# Altium footprint library syhaunguyen.PcbLib: 329 footprints (part 6 of 21)
Each footprint in its own frame and in the unit in brackets; x right, y up, seen from the top. Pads: shape width x height; smd on the part's side, far side on the other; paste and mask are expansions set on the pad; w line width, h text height; cw(c..) or ccw(c..) is an arc to the next point about the centre after c.
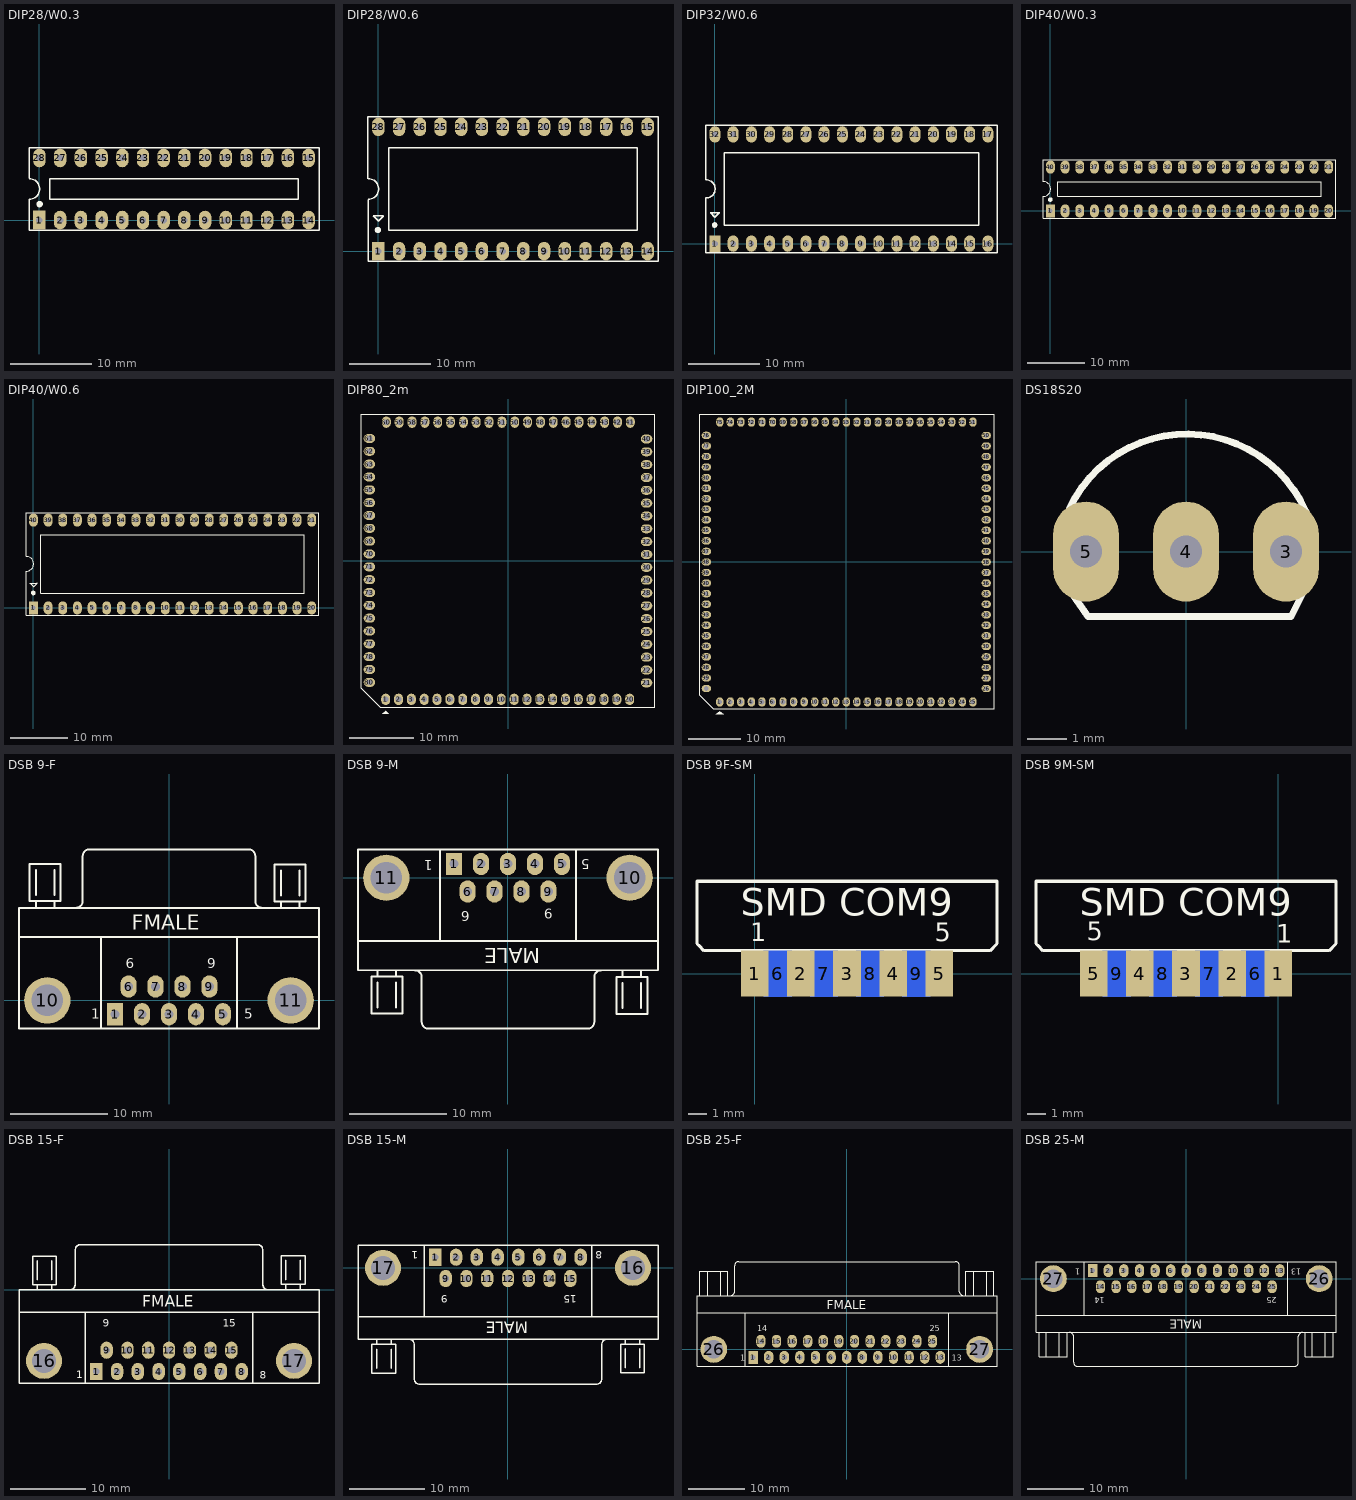
[diagram p5: the footprints below, top view; thin cyan lines are the x and y axes]

## DIP28/W0.3 [mil] "28 PIN, W 300mil, Pin to pin 100mil"
height 100
pads (28):
  rect 60x90 hole 31: 1(0,0)
  oval 60x90 hole 31: 2(100,0) 3(200,0) 4(300,0) 5(400,0) 6(500,0) 7(600,0) 8(700,0) 9(800,0) 10(900,0) 11(1000,0) 12(1100,0) 13(1200,0) 14(1300,0) 15(1300,300) 16(1200,300) 17(1100,300) 18(1000,300) 19(900,300) 20(800,300) 21(700,300) 22(600,300) 23(500,300) 24(400,300) 25(300,300) 26(200,300) 27(100,300) 28(0,300)
Top Overlay:
  circle w15: c1,77 r8
  lines w7: -50.38,100.05 ccw(c-48.69,150.02) -50,200 ; -50,100 -50,-50 1350,-50 1350,350 -50,350 -50,201 ; 50,100 1250,100 1250,200 50,200 50,100
3D body: height 200, standoff -98.03, extent -50,-10 1367.32,299.84

## DIP28/W0.6 [mil] "DIP28/W.600, Pin to pin 100mil"
height 100
pads (28):
  rect 60x90 hole 31: 1(0,0)
  oval 60x90 hole 31: 2(100,0) 3(200,0) 4(300,0) 5(400,0) 6(500,0) 7(600,0) 8(700,0) 9(800,0) 10(900,0) 11(1000,0) 12(1100,0) 13(1200,0) 14(1300,0) 15(1300,600) 16(1200,600) 17(1100,600) 18(1000,600) 19(900,600) 20(800,600) 21(700,600) 22(600,600) 23(500,600) 24(400,600) 25(300,600) 26(200,600) 27(100,600) 28(0,600)
Top Overlay:
  circle w15: c-2,102 r8
  lines w7: -51,350 -51,650 1350,650 1350,-50 -50,-50 -50,249 ; -50,250 ccw(c-48.31,299.97) -49.62,349.95 ; -25,170 -24,170 0,146 0,145 24,169 24,171 23,170 -25,170 ; 50,100 1250,100 1250,500 50,500 50,100
3D body: height 224.41, standoff -101.57, extent -84.25,0.16 1384.25,610

## DIP32/W0.6 [mil] "DIP32/W.600, Pin to pin 100mil"
height 100
pads (32):
  rect 60x90 hole 31: 1(0,0)
  oval 60x90 hole 31: 2(100,0) 3(200,0) 4(300,0) 5(400,0) 6(500,0) 7(600,0) 8(700,0) 9(800,0) 10(900,0) 11(1000,0) 12(1100,0) 13(1200,0) 14(1300,0) 15(1400,0) 16(1500,0) 17(1500,600) 18(1400,600) 19(1300,600) 20(1200,600) 21(1100,600) 22(1000,600) 23(900,600) 24(800,600) 25(700,600) 26(600,600) 27(500,600) 28(400,600) 29(300,600) 30(200,600) 31(100,600) 32(0,600)
Top Overlay:
  circle w15: c-2,102 r8
  lines w7: -50.38,251.05 ccw(c-48.69,301.02) -50,351 ; -50,251 -50,-50 1550,-50 1550,650 -50,650 -50,352 ; -25,170 23,170 24,171 24,169 0,145 0,146 -24,170 -25,170 ; 50,100 1450,100 1450,500 50,500 50,100
3D body: height 227.95, standoff -129.92, extent -77.56,0 1577.56,601.81

## DIP40/W0.3 [mil] "40 PIN, W 300mil, Pin to pin 100mil"
height 100
pads (40):
  rect 60x90 hole 31: 1(0,0)
  oval 60x90 hole 31: 2(100,0) 3(200,0) 4(300,0) 5(400,0) 6(500,0) 7(600,0) 8(700,0) 9(800,0) 10(900,0) 11(1000,0) 12(1100,0) 13(1200,0) 14(1300,0) 15(1400,0) 16(1500,0) 17(1600,0) 18(1700,0) 19(1800,0) 20(1900,0) 21(1900,300) 22(1800,300) 23(1700,300) 24(1600,300) 25(1500,300) 26(1400,300) 27(1300,300) 28(1200,300) 29(1100,300) 30(1000,300) 31(900,300) 32(800,300) 33(700,300) 34(600,300) 35(500,300) 36(400,300) 37(300,300) 38(200,300) 39(100,300) 40(0,300)
Top Overlay:
  circle w15: c-1,78 r8
  lines w7: -50.38,100.05 ccw(c-48.69,150.02) -50,200 ; -50,100 -50,-50 1950,-50 1950,350 -50,350 -50,201 ; 50,100 50,200 1850,200 1850,100 50,100
3D body: height 227.95, standoff -129.92, extent -70,-160.91 2000.87,440.91

## DIP40/W0.6 [mil] "40 PIN, W 600mil, Pin to pin 100mil"
height 100
pads (40):
  rect 60x90 hole 31: 1(0,0)
  oval 60x90 hole 31: 2(100,0) 3(200,0) 4(300,0) 5(400,0) 6(500,0) 7(600,0) 8(700,0) 9(800,0) 10(900,0) 11(1000,0) 12(1100,0) 13(1200,0) 14(1300,0) 15(1400,0) 16(1500,0) 17(1600,0) 18(1700,0) 19(1800,0) 20(1900,0) 21(1900,600) 22(1800,600) 23(1700,600) 24(1600,600) 25(1500,600) 26(1400,600) 27(1300,600) 28(1200,600) 29(1100,600) 30(1000,600) 31(900,600) 32(800,600) 33(700,600) 34(600,600) 35(500,600) 36(400,600) 37(300,600) 38(200,600) 39(100,600) 40(0,600)
Top Overlay:
  circle w15: c-1,102 r8
  lines w7: -50.38,251.05 ccw(c-48.69,301.02) -50,351 ; -50,251 -50,-50 1950,-50 1950,650 -50,650 -50,352 ; -24,170 24,170 25,171 25,169 1,145 1,146 -23,170 -24,170 ; 50,100 50,500 1850,500 1850,100 50,100
3D body: height 224.41, standoff -101.57, extent -82.48,-10 1982.48,599.84

## DIP80_2m [mil] "DIP80, P - P 200"
pads (80):
  oval 55x70 hole 35: 1(-750,-850) 2(-671.26,-850) 3(-592.52,-850) 4(-513.78,-850) 5(-435.04,-850) 6(-356.3,-850) 7(-277.56,-850) 8(-198.82,-850) 9(-120.08,-850) 10(-41.34,-850) 11(37.4,-850) 12(116.14,-850) 13(194.88,-850) 14(273.62,-850) 15(352.36,-850) 16(431.1,-850) 17(509.84,-850) 18(588.58,-850) 19(667.32,-850) 20(746.06,-850) 41(750,850) 42(671.26,850) 43(592.52,850) 44(513.78,850) 45(435.04,850) 46(356.3,850) 47(277.56,850) 48(198.82,850) 49(120.08,850) 50(41.34,850) 51(-37.4,850) 52(-116.14,850) 53(-194.88,850) 54(-273.62,850) 55(-352.36,850) 56(-431.1,850) 57(-509.84,850) 58(-588.58,850) 59(-667.32,850) 60(-746.06,850)
  oval 70x55 hole 35: 21(850,-749) 22(850,-670.26) 23(850,-591.52) 24(850,-512.78) 25(850,-434.04) 26(850,-355.3) 27(850,-276.56) 28(850,-197.82) 29(850,-119.08) 30(850,-40.34) 31(850,38.4) 32(850,117.14) 33(850,195.88) 34(850,274.62) 35(850,353.36) 36(850,432.1) 37(850,510.84) 38(850,589.58) 39(850,668.32) 40(850,747.06) 61(-850,750) 62(-850,671.26) 63(-850,592.52) 64(-850,513.78) 65(-850,435.04) 66(-850,356.3) 67(-850,277.56) 68(-850,198.82) 69(-850,120.08) 70(-850,41.34) 71(-850,-37.4) 72(-850,-116.14) 73(-850,-194.88) 74(-850,-273.62) 75(-850,-352.36) 76(-850,-431.1) 77(-850,-509.84) 78(-850,-588.58) 79(-850,-667.32) 80(-850,-746.06)
Top Overlay:
  region: -770,-940 -750,-920 -730,-940
  lines w7: -900,-783 -783,-900 900,-900 900,900 -900,900 -900,-783

## DIP100_2M [mil] "DIP100 - P-P 2mm"
pads (100):
  oval 55x70 hole 35: 1(-945,-1045) 2(-866.26,-1045) 3(-787.52,-1045) 4(-708.78,-1045) 5(-630.04,-1045) 6(-551.3,-1045) 7(-472.56,-1045) 8(-393.82,-1045) 9(-315.08,-1045) 10(-236.34,-1045) 11(-157.6,-1045) 12(-78.86,-1045) 13(-0.12,-1045) 14(78.62,-1045) 15(157.36,-1045) 16(236.1,-1045) 17(314.84,-1045) 18(393.58,-1045) 19(472.32,-1045) 20(551.06,-1045) 21(629.8,-1045) 22(708.54,-1045) 23(787.28,-1045) 24(866.02,-1045) 25(944.76,-1045) 51(945,1045) 52(866.26,1045) 53(787.52,1045) 54(708.78,1045) 55(630.04,1045) 56(551.3,1045) 57(472.56,1045) 58(393.82,1045) 59(315.08,1045) 60(236.34,1045) 61(157.6,1045) 62(78.86,1045) 63(0.12,1045) 64(-78.62,1045) 65(-157.36,1045) 66(-236.1,1045) 67(-314.84,1045) 68(-393.58,1045) 69(-472.32,1045) 70(-551.06,1045) 71(-629.8,1045) 72(-708.54,1045) 73(-787.28,1045) 74(-866.02,1045) 75(-944.76,1045)
  oval 70x55 hole 35: 26(1045,-945) 27(1045,-866.26) 28(1045,-787.52) 29(1045,-708.78) 30(1045,-630.04) 31(1045,-551.3) 32(1045,-472.56) 33(1045,-393.82) 34(1045,-315.08) 35(1045,-236.34) 36(1045,-157.6) 37(1045,-78.86) 38(1045,-0.12) 39(1045,78.62) 40(1045,157.36) 41(1045,236.1) 42(1045,314.84) 43(1045,393.58) 44(1045,472.32) 45(1045,551.06) 46(1045,629.8) 47(1045,708.54) 48(1045,787.28) 49(1045,866.02) 50(1045,944.76) 76(-1045,945) 77(-1045,866.26) 78(-1045,787.52) 79(-1045,708.78) 80(-1045,630.04) 81(-1045,551.3) 82(-1045,472.56) 83(-1045,393.82) 84(-1045,315.08) 85(-1045,236.34) 86(-1045,157.6) 87(-1045,78.86) 88(-1045,0.12) 89(-1045,-78.62) 90(-1045,-157.36) 91(-1045,-236.1) 92(-1045,-314.84) 93(-1045,-393.58) 94(-1045,-472.32) 95(-1045,-551.06) 96(-1045,-629.8) 97(-1045,-708.54) 98(-1045,-787.28) 99(-1045,-866.02) 100(-1045,-944.76)
Top Overlay:
  region: -945,-1115 -975,-1135 -915,-1135
  lines w7: -1095,-995 -995,-1095 1105,-1095 1105,1105 -1095,1105 -1095,-995

## DS18S20 [mil] "TO-92"
height 200
pads (3):
  oval 66x100 hole 32: 3(100,0) 4(0,0) 5(-100,0)
Top Overlay:
  lines w7: -116.52,43.21 cw(c0.97,-12.43) 119.94,39.97 ; -115.34,-40.24 -98,-65 105,-65 118,-39

## DSB 9-F [mil] "COM FMALE - D Subminiature; 9 Position; Right Angle; Pitch 1.385 mm"
height 501.97
pads (11):
  rect 65x90 hole 35: 1(-218.11,-55.91)
  oval 65x90 hole 35: 2(-109.06,-55.91) 3(0,-55.91) 4(109.06,-55.91) 5(218.11,-55.91) 6(-163.58,55.91) 7(-54.53,55.91) 8(54.53,55.91) 9(163.58,55.91)
  round 187.4 hole 128.35: 10(-491.93,0) 11(491.93,0)
Top Overlay:
  lines w7.87: -606.3,255.91 606.3,255.91 ; -376.38,374.21 ccw(c-376.38,401.57) -349.02,401.57 -349.02,582.68 ; -348.82,582.87 cw(c-321.46,582.87) -321.46,610.24 321.46,610.24 cw(c321.46,582.87) 348.82,582.87 ; -275.59,-114.17 -275.59,255.91 ; 275.59,-114.17 275.59,255.91 ; 349.02,582.68 349.02,401.57 ccw(c376.38,401.57) 376.38,374.21 ; -606.3,-114.17 -606.3,374.02 606.3,374.02 606.3,-114.17 -606.3,-114.17
  lines w8: -538,376.02 -538,401.02 ; -538,426.02 -538,526.02 ; -463,376.02 -463,401.02 ; -463,426.02 -463,526.02 ; 452,374.02 452,399.02 ; 452,424.02 452,524.02 ; 527,374.02 527,399.02 ; 527,424.02 527,524.02 ; -563,401.02 -438,401.02 -438,551.02 -563,551.02 -563,401.02 ; 427,399.02 552,399.02 552,549.02 427,549.02 427,399.02
  text "1" at -315,-75 h40
  text "5" at 305,-75 h40
  text "9" at 155,130 h40
  text "6" at -175,130 h40
  text "FMALE" at -150,285 h60
3D body: height 494.6, standoff -124.4, extent -604.5,-138 608.5,613

## DSB 9-M [mil] "COM MALE D Subminiature; 9 Position; Right Angle; Pitch 1.385 mm"
height 501.97
pads (11):
  rect 65x90 hole 35: 1(-218.11,55.91)
  oval 65x90 hole 35: 2(-109.05,55.91) 3(0,55.91) 4(109.06,55.91) 5(218.11,55.91) 6(-163.58,-55.91) 7(-54.53,-55.91) 8(54.53,-55.91) 9(163.58,-55.91)
  round 187.4 hole 128.35: 10(491.93,0) 11(-491.93,0)
Top Overlay:
  lines w7.87: -606.3,-255.91 606.3,-255.91 ; -376.38,-374.21 cw(c-376.38,-401.57) -349.02,-401.57 -349.02,-582.68 ; -348.82,-582.87 ccw(c-321.46,-582.87) -321.46,-610.24 321.46,-610.24 ccw(c321.46,-582.87) 348.82,-582.87 ; -275.59,-255.91 -275.59,114.17 ; 275.59,-255.91 275.59,114.17 ; 349.02,-582.68 349.02,-401.57 cw(c376.38,-401.57) 376.38,-374.21 ; -606.3,-374.02 -606.3,114.17 606.3,114.17 606.3,-374.02 -606.3,-374.02
  lines w8: -527,-524.02 -527,-424.02 ; -527,-399.02 -527,-374.02 ; -452,-524.02 -452,-424.02 ; -452,-399.02 -452,-374.02 ; 463,-526.02 463,-426.02 ; 463,-401.02 463,-376.02 ; 538,-526.02 538,-426.02 ; 538,-401.02 538,-376.02 ; -552,-549.02 -552,-399.02 -427,-399.02 -427,-549.02 -552,-549.02 ; 438,-551.02 438,-401.02 563,-401.02 563,-551.02 438,-551.02
  text "MALE" at 130,-285 h60
  text "1" at -305,70 h40
  text "5" at 330,75 h40
  text "9" at 180,-125 h40
  text "6" at -155,-135 h40
3D body: height 494.6, standoff -124.4, extent -610,-637 606,138

## DSB 9F-SM [mil] "Com 9 chan SMD,F"
pads (11):
  rect 60x100 smd: 1(0,0) 2(100,0) 3(200,0) 4(300,0) 5(400,0)
  rect 60x100 smd far side: 6(50,0) 7(150,0) 8(250,0) 9(350,0)
  round 1 all layers, no hole: 10(21,144) 11(152,144)
Top Overlay:
  lines w7: -125,65 -125,100 -125,200 525,200 525,65 510,50 435,50 -110,50 -120,60 -125,65
  text "1" at -10,70 h40
  text "5" at 390,70 h40
  text "SMD COM9" at -30,125 h60

## DSB 9M-SM [mil] "Com 9 chan SMD,F"
pads (11):
  rect 60x100 smd: 1(0,0) 2(-100,0) 3(-200,0) 4(-300,0) 5(-400,0)
  rect 60x100 smd far side: 6(-50,0) 7(-150,0) 8(-250,0) 9(-350,0)
  round 1 all layers, no hole: 10(-379,144) 11(-248,144)
Top Overlay:
  lines w7: -525,65 -520,60 -510,50 35,50 110,50 125,65 125,200 -525,200 -525,100 -525,65
  text "SMD COM9" at -430,125 h60
  text "5" at -415,72 h40
  text "1" at -4,67 h40

## DSB 15-F [mil] "COM FMALE - D Subminiature; 15 Position; Right Angle; Pitch 1.385 mm"
height 501.97
pads (17):
  rect 65x90 hole 35: 1(-381.69,-429.92)
  oval 65x90 hole 35: 2(-272.64,-429.92) 3(-163.58,-429.92) 4(-54.53,-429.92) 5(54.53,-429.92) 6(163.58,-429.92) 7(272.64,-429.92) 8(381.69,-429.92) 9(-327.17,-318.11) 10(-218.11,-318.11) 11(-109.06,-318.11) 12(0,-318.11) 13(109.06,-318.11) 14(218.11,-318.11) 15(327.17,-318.11)
  round 188.98 hole 125.2: 16(-655.91,-374.02) 17(655.91,-374.02)
Top Overlay:
  lines w7.87: -787.4,-118.11 787.4,-118.11 ; -519.49,0.2 ccw(c-519.49,27.56) -492.13,27.56 -492.13,208.66 ; -491.93,208.86 cw(c-464.57,208.86) -464.57,236.22 464.57,236.22 cw(c464.57,208.86) 491.93,208.86 ; -438.58,-492.13 -438.58,-118.11 ; 438.58,-492.13 438.58,-118.11 ; 492.13,208.66 492.13,27.56 ccw(c519.49,27.56) 519.49,0.2 ; -787.4,-492.13 -787.4,0 787.4,0 787.4,-492.13 -787.4,-492.13
  lines w8: -691,1 -691,26 ; -691,51 -691,151 ; -616,1 -616,26 ; -616,51 -616,151 ; 614,3 614,28 ; 614,53 614,153 ; 689,3 689,28 ; 689,53 689,153 ; -716,26 -716,176 -591,176 -591,26 -716,26 ; 589,28 589,178 714,178 714,28 589,28
  text "1" at -488,-466 h40
  text "8" at 476,-469 h40
  text "15" at 282.87,-195.87 h40
  text "9" at -346.85,-195.87 h40
  text "FMALE" at -140,-90 h60
3D body: height 494.7, standoff -137.19, extent -778.92,-485.41 780.92,239

## DSB 15-M [mil] "LPT15 MALE - D Subminiature; 15 Position; Right Angle; Pitch 1.385 mm"
height 501.97
pads (17):
  rect 65x90 hole 35: 1(-381.69,55.91)
  oval 65x90 hole 35: 2(-272.64,55.9) 3(-163.58,55.9) 4(-54.53,55.9) 5(54.53,55.9) 6(163.58,55.9) 7(272.64,55.9) 8(381.69,55.9) 9(-327.16,-55.91) 10(-218.11,-55.91) 11(-109.05,-55.91) 12(0,-55.91) 13(109.06,-55.91) 14(218.11,-55.91) 15(327.17,-55.91)
  round 188.98 hole 125.2: 16(655.91,0) 17(-655.91,0)
Top Overlay:
  lines w7.87: -787.4,-255.91 787.4,-255.91 ; -519.49,-374.21 cw(c-519.49,-401.58) -492.13,-401.58 -492.13,-582.68 ; -491.93,-582.87 ccw(c-464.57,-582.87) -464.57,-610.24 464.57,-610.24 ccw(c464.57,-582.87) 491.93,-582.87 ; -438.58,-255.91 -438.58,118.11 ; 438.58,-255.91 438.58,118.11 ; 492.13,-582.68 492.13,-401.58 cw(c519.49,-401.58) 519.49,-374.21 ; -787.4,-374.02 -787.4,118.11 787.4,118.11 787.4,-374.02 -787.4,-374.02
  lines w8: -689,-527.02 -689,-427.02 ; -689,-402.02 -689,-377.02 ; -614,-527.02 -614,-427.02 ; -614,-402.02 -614,-377.02 ; 616,-525.02 616,-425.02 ; 616,-400.02 616,-375.02 ; 691,-525.02 691,-425.02 ; 691,-400.02 691,-375.02 ; -714,-552.02 -589,-552.02 -589,-402.02 -714,-402.02 -714,-552.02 ; 591,-550.02 716,-550.02 716,-400.02 591,-400.02 591,-550.02
  text "1" at -470,85.98 h40
  text "8" at 495,85.98 h40
  text "15" at 360,-144.02 h40
  text "9" at -315,-144.02 h40
  text "MALE" at 105,-284.02 h60
3D body: height 494.7, standoff -137.19, extent -775.92,-622.16 783.92,118

## DSB 25-F [mil] "LPT FMALE - D Subminiature; 25 Position; Right Angle; Pitch 1.385 mm"
height 509.06
pads (27):
  rect 65x90 hole 35: 1(-652.2,-55.91)
  oval 65x90 hole 35: 2(-543.5,-55.91) 3(-434.8,-55.91) 4(-326.1,-55.91) 5(-217.4,-55.91) 6(-108.7,-55.91) 7(0,-55.91) 8(108.7,-55.91) 9(217.4,-55.91) 10(326.1,-55.91) 11(434.8,-55.91) 12(543.5,-55.91) 13(652.2,-55.91) 14(-597.85,55.91) 15(-489.15,55.91) 16(-380.45,55.91) 17(-271.75,55.91) 18(-163.05,55.91) 19(-54.35,55.91) 20(54.35,55.91) 21(163.05,55.91) 22(271.75,55.91) 23(380.45,55.91) 24(489.15,55.91) 25(597.85,55.91)
  round 187.4 hole 128.35: 26(-926.22,0) 27(926.22,0)
Top Overlay:
  lines w7.87: -1043.15,255.91 1047.4,255.91 ; -808.7,374.21 ccw(c-808.7,401.57) -781.34,401.57 -781.34,582.68 ; -781.14,582.87 cw(c-753.78,582.87) -753.78,610.24 758.03,610.24 cw(c758.03,582.87) 785.39,582.87 ; -706.54,-118.11 -706.54,255.91 ; 710.79,-118.11 710.79,255.91 ; 785.59,582.68 785.59,401.57 ccw(c812.95,401.57) 812.95,374.21 ; -1043.15,-118.11 -1043.15,374.02 1047.4,374.02 1047.4,-118.11 -1043.15,-118.11
  lines w8: -1023,375.02 -1023,544.02 -828,544.02 -828,375.02 ; -968,375.02 -968,544.02 ; -878,375.02 -878,544.02 ; 830,375.02 830,544.02 1025,544.02 1025,375.02 ; 885,375.02 885,544.02 ; 975,375.02 975,544.02
  text "25" at 578,125.02 h40
  text "14" at -624,125.02 h40
  text "13" at 733,-79.98 h40
  text "1" at -743,-79.98 h40
  text "FMALE" at -140,279.02 h60
3D body: height 500.6, standoff -99.4, extent -1054.56,-120 1050.56,604.41

## DSB 25-M [mil] "LPT MALE D Subminiature; 25 Position; Right Angle; Pitch 1.385 mm"
height 509.06
pads (27):
  rect 65x90 hole 35: 1(-652.2,55.91)
  oval 65x90 hole 35: 2(-543.5,55.91) 3(-434.8,55.91) 4(-326.1,55.91) 5(-217.4,55.91) 6(-108.7,55.91) 7(0,55.91) 8(108.7,55.91) 9(217.4,55.91) 10(326.1,55.91) 11(434.8,55.91) 12(543.5,55.91) 13(652.21,55.91) 14(-597.85,-55.91) 15(-489.15,-55.91) 16(-380.45,-55.91) 17(-271.75,-55.91) 18(-163.05,-55.91) 19(-54.35,-55.91) 20(54.35,-55.91) 21(163.05,-55.91) 22(271.75,-55.91) 23(380.45,-55.91) 24(489.15,-55.91) 25(597.85,-55.91)
  round 187.4 hole 128.35: 26(926.22,0) 27(-926.22,0)
Top Overlay:
  lines w7.87: -1047.4,-255.91 1043.15,-255.91 ; -812.95,-374.21 cw(c-812.95,-401.57) -785.59,-401.57 -785.59,-582.68 ; -785.39,-582.87 ccw(c-758.03,-582.87) -758.03,-610.24 753.78,-610.24 ccw(c753.78,-582.87) 781.14,-582.87 ; -710.79,-255.91 -710.79,118.11 ; 706.54,-255.91 706.54,118.11 ; 781.34,-582.68 781.34,-401.57 cw(c808.7,-401.57) 808.7,-374.21 ; -1047.4,-374.02 -1047.4,118.11 1043.15,118.11 1043.15,-374.02 -1047.4,-374.02
  lines w8: -1025,-375.02 -1025,-544.02 -830,-544.02 -830,-375.02 ; -975,-544.02 -975,-375.02 ; -885,-544.02 -885,-375.02 ; 828,-375.02 828,-544.02 1023,-544.02 1023,-375.02 ; 878,-544.02 878,-375.02 ; 968,-544.02 968,-375.02
  text "25" at 630,-129.02 h40
  text "14" at -570,-129.02 h40
  text "13" at 800,70.98 h40
  text "1" at -740,70.98 h40
  text "MALE" at 110,-285 h60
3D body: height 500.6, standoff -176.56, extent -1052.56,-606.41 1052.56,118